# EAGLE library part STMICROELECTRONICS-MICROCONTROLLER-STM32L431RCY6TR (library Module_ICs)
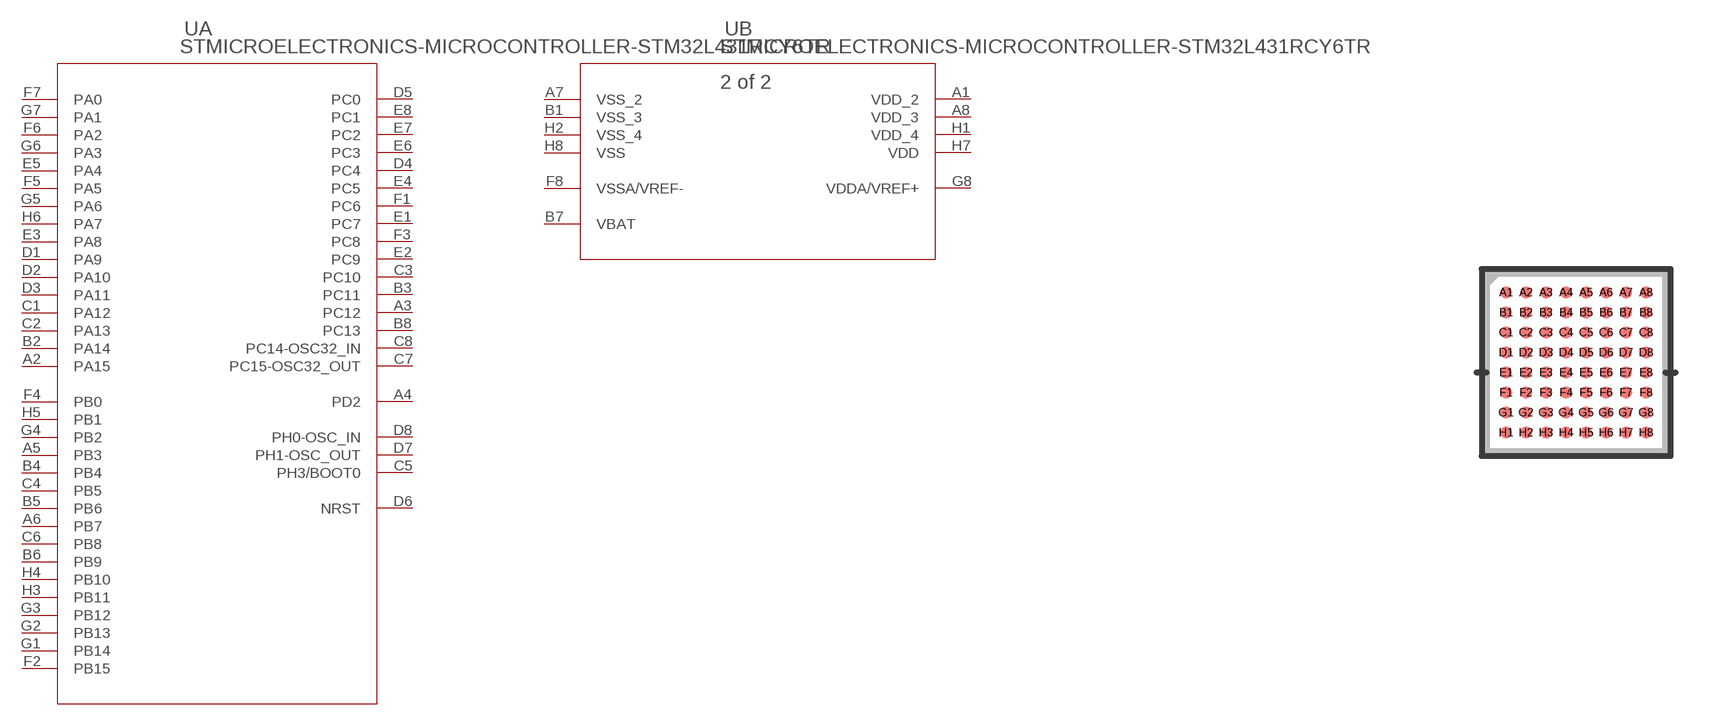
[diagram p77: symbol with the pads of WLCSP64; footprint WLCSP64]

Designator prefix U; gates A=STM32L4_WLCSP64_T4 B=STM32L4_WLCSP64_T4_1

## STMICROELECTRONICS-MICROCONTROLLER-STM32L431RCY6TR (BUILT_BY: EMA_UL_Team; COPYRIGHT: Copyright (C) 2018 Accelerated Designs. All rights reserved; MANUFACTURER_PART_NUMBER: STM32L431RCY6TR; SOURCELIBRARY: STMicroelectronics_2020-10-07; VENDOR: STMicroelectronics)  [WLCSP64]
A1  B:VDD_2  pwr
A2  A:PA15
A3  A:PC12
A4  A:PD2
A5  A:PB3
A6  A:PB7
A7  B:VSS_2  pwr
A8  B:VDD_3  pwr
B1  B:VSS_3  pwr
B2  A:PA14
B3  A:PC11
B4  A:PB4
B5  A:PB6
B6  A:PB9
B7  B:VBAT  pwr
B8  A:PC13
C1  A:PA12
C2  A:PA13
C3  A:PC10
C4  A:PB5
C5  A:PH3/BOOT0
C6  A:PB8
C7  A:PC15-OSC32_OUT
C8  A:PC14-OSC32_IN
D1  A:PA9
D2  A:PA10
D3  A:PA11
D4  A:PC4
D5  A:PC0
D6  A:NRST
D7  A:PH1-OSC_OUT
D8  A:PH0-OSC_IN
E1  A:PC7
E2  A:PC9
E3  A:PA8
E4  A:PC5
E5  A:PA4
E6  A:PC3
E7  A:PC2
E8  A:PC1
F1  A:PC6
F2  A:PB15
F3  A:PC8
F4  A:PB0
F5  A:PA5
F6  A:PA2
F7  A:PA0
F8  B:VSSA/VREF-  pwr
G1  A:PB14
G2  A:PB13
G3  A:PB12
G4  A:PB2
G5  A:PA6
G6  A:PA3
G7  A:PA1
G8  B:VDDA/VREF+  pwr
H1  B:VDD_4  pwr
H2  B:VSS_4  pwr
H3  A:PB11
H4  A:PB10
H5  A:PB1
H6  A:PA7
H7  B:VDD  pwr
H8  B:VSS  pwr

## Footprint WLCSP64 (pad centres in mm)
smd 0.305 x 0.305: A1 -1.751,1.751; A2 -1.251,1.751; A3 -0.751,1.751; A4 -0.25,1.751; A5 0.25,1.751; A6 0.751,1.751; A7 1.251,1.751; A8 1.751,1.751; B1 -1.751,1.251; B2 -1.251,1.251; B3 -0.751,1.251; B4 -0.25,1.251; B5 0.25,1.251; B6 0.751,1.251; B7 1.251,1.251; B8 1.751,1.251; C1 -1.751,0.751; C2 -1.251,0.751; C3 -0.751,0.751; C4 -0.25,0.751; C5 0.25,0.751; C6 0.751,0.751; C7 1.251,0.751; C8 1.751,0.751; D1 -1.751,0.25; D2 -1.251,0.25; D3 -0.751,0.25; D4 -0.25,0.25; D5 0.25,0.25; D6 0.751,0.25; D7 1.251,0.25; D8 1.751,0.25; E1 -1.751,-0.25; E2 -1.251,-0.25; E3 -0.751,-0.25; E4 -0.25,-0.25; E5 0.25,-0.25; E6 0.751,-0.25; E7 1.251,-0.25; E8 1.751,-0.25; F1 -1.751,-0.751; F2 -1.251,-0.751; F3 -0.751,-0.751; F4 -0.25,-0.751; F5 0.25,-0.751; F6 0.751,-0.751; F7 1.251,-0.751; F8 1.751,-0.751; G1 -1.751,-1.251; G2 -1.251,-1.251; G3 -0.751,-1.251; G4 -0.25,-1.251; G5 0.25,-1.251; G6 0.751,-1.251; G7 1.251,-1.251; G8 1.751,-1.251; H1 -1.751,-1.751; H2 -1.251,-1.751; H3 -0.751,-1.751; H4 -0.25,-1.751; H5 0.25,-1.751; H6 0.751,-1.751; H7 1.251,-1.751; H8 1.751,-1.751